# Altium footprint library MISC.PcbLib: 2 footprints
Each footprint in its own frame and in the unit in brackets; x right, y up, seen from the top. Pads: shape width x height; smd on the part's side, far side on the other; paste and mask are expansions set on the pad; w line width, h text height; cw(c..) or ccw(c..) is an arc to the next point about the centre after c.
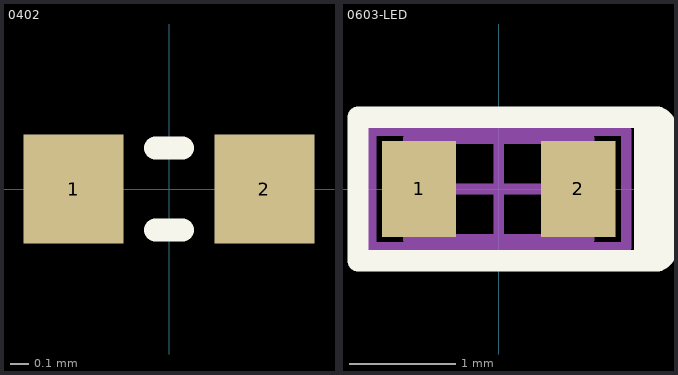
[diagram p0: the footprints below, top view; thin cyan lines are the x and y axes]

## 0402 [mm] "0402 Resistor"
pads (2):
  rect 0.55x0.6 smd: 1(-0.525,0) 2(0.525,0)
Top Overlay:
  lines w0.127: -0.075,-0.225 0.075,-0.225 ; -0.075,0.225 0.075,0.225

## 0603-LED [mm]
height 0.9
pads (2):
  rect 0.7x0.9 smd: 1(-0.75,0) 2(0.75,0)
Top Overlay:
  lines w0.2: 1.5,-0.675 -1.325,-0.675 -1.325,0.675 1.5,0.675
  lines w0.4: 1.475,-0.575 1.475,0.575
Mechanical 13:
  lines w0.1: -0.85,-0.475 -0.85,0.475 0.85,0.475 0.85,-0.475 -0.85,-0.475
Mechanical 15:
  lines w0.1: -0.475,0 0.475,0 ; 0,-0.475 0,0.475 ; -1.2,-0.55 -1.2,0.55 1.2,0.55 1.2,-0.55 -1.2,-0.55
3D body: height 0.9, standoff 0, extent -0.85,-0.475 0.85,0.475